# EAGLE library part MCP4728-E/UN (library MCP4728-E_UN)
Check availability <https://pricing.snapeda.com/parts/MCP4728-E/UN/Microchip/view-part?ref=eda>
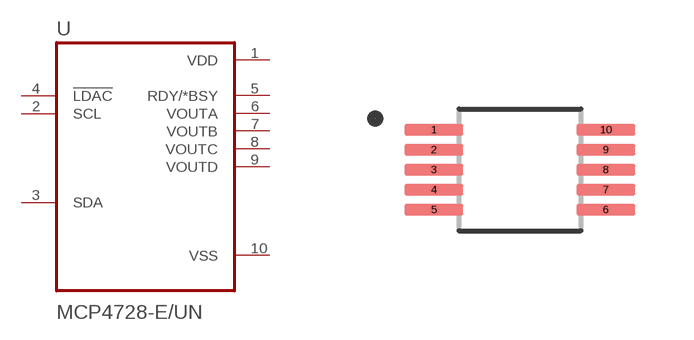
[diagram p0: symbol with the pads of SOP50P490X110-10N; footprint SOP50P490X110-10N]

Designator prefix U

## MCP4728-E/UN (Availability: In Stock; Description: 12 Bit Digital to Analog Converter 4 10-MSOP; MF: Microchip; MP: MCP4728-E/UN; Package: MSOP-10 Microchip; Price: None; Purchase-URL: https://pricing.snapeda.com/search/part/MCP4728-E/UN/?ref=eda)  [SOP50P490X110-10N]
1  VDD  pwr
2  SCL  in
3  SDA
4  !LDAC  in
5  RDY/*BSY  out
6  VOUTA  out
7  VOUTB  out
8  VOUTC  out
9  VOUTD  out
10  VSS  pwr

## Footprint SOP50P490X110-10N (pad centres in mm)
smd 1.47 x 0.28: 1 -2.15,1; 2 -2.15,0.5; 3 -2.15,0; 4 -2.15,-0.5; 5 -2.15,-1; 6 2.15,-1; 7 2.15,-0.5; 8 2.15,0; 9 2.15,0.5; 10 2.15,1